# Altium footprint library FVA-NET.PcbLib: 16 footprints
Each footprint in its own frame and in the unit in brackets; x right, y up, seen from the top. Pads: shape width x height; smd on the part's side, far side on the other; paste and mask are expansions set on the pad; w line width, h text height; cw(c..) or ccw(c..) is an arc to the next point about the centre after c.
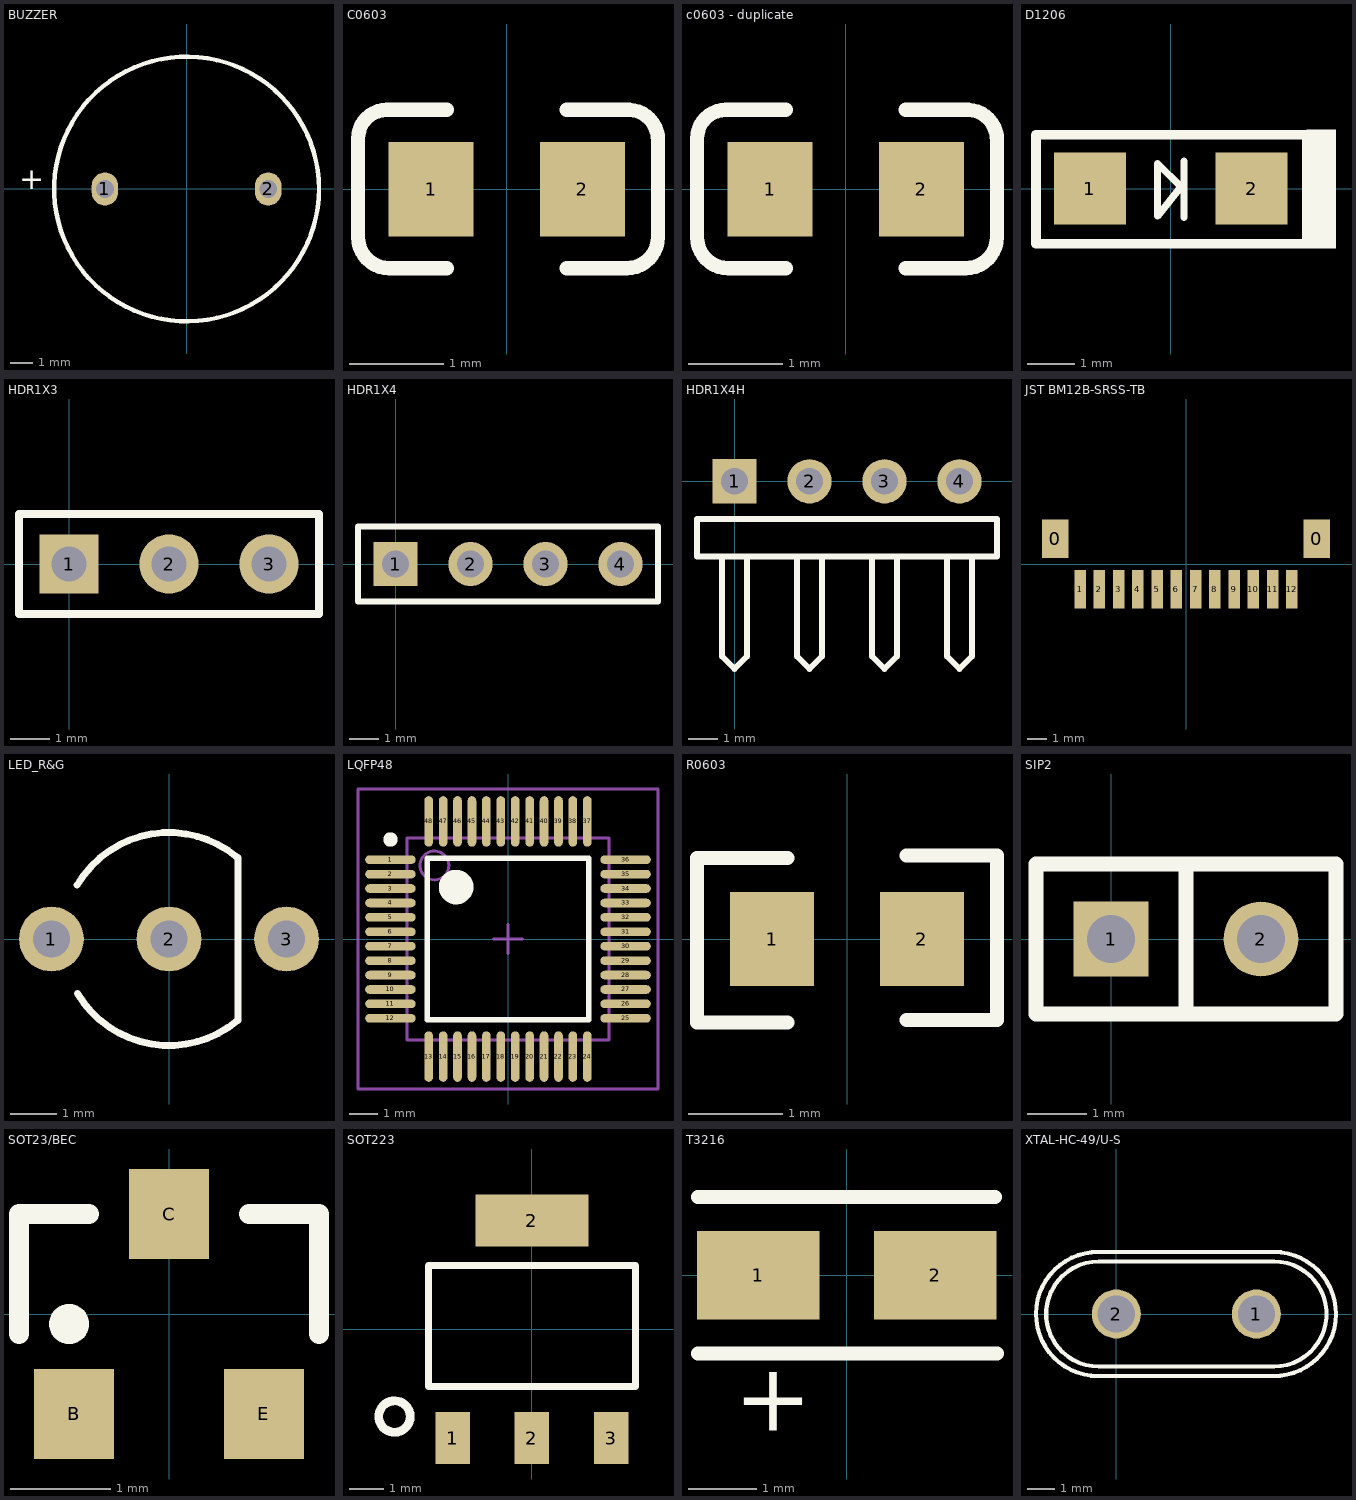
[diagram p0: the footprints below, top view; thin cyan lines are the x and y axes]

## BUZZER [mm]
height 19.3
pads (2):
  oval 1.2x1.5 hole 0.8: 1(-3.7,0) 2(3.7,0)
Top Overlay:
  circle w0.2: c0,0 r6
  text "+" at -7.595,-0.013 h1
3D body: height 9.3, standoff -3.5, extent -6.031,-6 5.969,6

## C0603 [mm] "Chip Capacitor, 2-Leads, Body 1.6x0.8mm, IPC Medium Density"
height 0.5
pads (2):
  rect 0.9x1 smd: 1(-0.8,0) 2(0.8,0)
Top Overlay:
  lines w0.15: -0.635,-0.838 -1.245,-0.838 cw(c-1.245,-0.508) -1.575,-0.508 -1.575,0.533 cw(c-1.27,0.533) -1.27,0.838 -0.635,0.838 ; 0.635,-0.838 1.27,-0.838 ccw(c1.27,-0.508) 1.6,-0.508 1.6,0.508 ccw(c1.283,0.521) 1.295,0.838 ; 0.635,0.838 1.27,0.838
3D body: height 0.89, standoff -0.01, extent -1.3,-0.508 1.3,0.492

## c0603 - duplicate [mm]
pads (2):
  rect 0.9x1 smd: 1(-0.8,0) 2(0.8,0)
Top Overlay:
  lines w0.15: -0.635,-0.838 -1.245,-0.838 cw(c-1.245,-0.508) -1.575,-0.508 -1.575,0.533 cw(c-1.27,0.533) -1.27,0.838 -0.635,0.838 ; 0.635,-0.838 1.27,-0.838 ccw(c1.27,-0.508) 1.6,-0.508 1.6,0.508 ccw(c1.283,0.521) 1.295,0.838 ; 0.635,0.838 1.27,0.838
3D body: height 0.89, standoff -0.01, extent -1.3,-0.508 1.3,0.492

## D1206 [mil]
pads (2):
  rect 60x60 smd: 1(-67.5,0) 2(67.5,0)
Top Overlay:
  rectangle: 113.51,-49.88 138,49.12
  lines w6: 11,-24 11,23 ; -11,-23 8.57,1.46 -11,21.02 -11,-23
  lines w8: 57.02,45.03 113.52,45.03 113.52,-45.97 57,-45.97 -112.48,-45.97 -112.48,45.03 65,45.03
3D body: height 56.1, standoff -0.98, extent -68.8,-28.54 69,28.54

## HDR1X3 [mm] "Connector; Header; 3 Position"
pads (3):
  rect 1.5x1.5 hole 0.9: 1(0,0)
  round 1.5 hole 0.9: 2(2.54,0) 3(5.08,0)
Top Overlay:
  lines w0.2: -1.27,-1.27 6.35,-1.27 6.35,1.27 -1.27,1.27 -1.27,-1.27

## HDR1X4 [mm] "Connector; Header; 4 Position"
pads (4):
  rect 1.5x1.5 hole 0.9: 1(0,0)
  round 1.5 hole 0.9: 2(2.54,0) 3(5.08,0) 4(7.62,0)
Top Overlay:
  lines w0.2: -1.27,-1.27 8.89,-1.27 8.89,1.27 -1.27,1.27 -1.27,-1.27

## HDR1X4H [mm] "Connector; Header; 4 Position; Right Angle"
pads (4):
  rect 1.5x1.5 hole 0.9: 1(0,0)
  round 1.5 hole 0.9: 2(2.54,0) 3(5.08,0) 4(7.62,0)
Top Overlay:
  lines w0.2: -0.423,-2.54 -0.423,-5.927 0,-6.35 0.423,-5.927 0.423,-2.54 ; 2.117,-2.54 2.117,-5.927 2.54,-6.35 2.963,-5.927 2.963,-2.54 ; 4.657,-2.54 4.657,-5.927 5.08,-6.35 5.503,-5.927 5.503,-2.54 ; 7.197,-2.54 7.197,-5.927 7.62,-6.35 8.043,-5.927 8.043,-2.54 ; -1.27,-2.54 8.89,-2.54 8.89,-1.27 -1.27,-1.27 -1.27,-2.54

## JST BM12B-SRSS-TB [mm] "BM12B-SRSS-TB"
height 6.3
pads (14):
  rect 1.4x2 smd: 0(-6.8,1.308) 0(6.8,1.308)
  rect 0.6x2 smd: 1(-5.5,-1.308) 2(-4.5,-1.308) 3(-3.5,-1.308) 4(-2.5,-1.308) 5(-1.5,-1.308) 6(-0.5,-1.308) 7(0.5,-1.308) 8(1.5,-1.308) 9(2.5,-1.308) 10(3.5,-1.308) 11(4.5,-1.308) 12(5.5,-1.308)
3D body: height 4.25, standoff -0.07, extent -7,-1.568 7,2.032

## LED_R&G [mm]
pads (3):
  round 1.4 hole 0.8: 1(-2.54,0) 2(0,0) 3(2.54,0)
Top Overlay:
  lines w0.15: -1.982,1.166 cw(c0,0) 1.486,1.756 1.486,-1.756 cw(c0,0) -1.976,-1.176
3D body: height 12.43, standoff -1, extent -2.341,-2 2.159,2

## LQFP48 [mm] "TSQFP, 48-Leads, Body 9.2x9.2mm (max), Pitch 0.50mm, IPC Medium Density"
height 1.6
pads (48):
  oval 1.75x0.3 smd: 1(-4.075,2.75) 2(-4.075,2.25) 3(-4.075,1.75) 4(-4.075,1.25) 5(-4.075,0.75) 6(-4.075,0.25) 7(-4.075,-0.25) 8(-4.075,-0.75) 9(-4.075,-1.25) 10(-4.075,-1.75) 11(-4.075,-2.25) 12(-4.075,-2.75) 25(4.075,-2.75) 26(4.075,-2.25) 27(4.075,-1.75) 28(4.075,-1.25) 29(4.075,-0.75) 30(4.075,-0.25) 31(4.075,0.25) 32(4.075,0.75) 33(4.075,1.25) 34(4.075,1.75) 35(4.075,2.25) 36(4.075,2.75)
  oval 0.3x1.75 smd: 13(-2.75,-4.075) 14(-2.25,-4.075) 15(-1.75,-4.075) 16(-1.25,-4.075) 17(-0.75,-4.075) 18(-0.25,-4.075) 19(0.25,-4.075) 20(0.75,-4.075) 21(1.25,-4.075) 22(1.75,-4.075) 23(2.25,-4.075) 24(2.75,-4.075) 37(2.75,4.075) 38(2.25,4.075) 39(1.75,4.075) 40(1.25,4.075) 41(0.75,4.075) 42(0.25,4.075) 43(-0.25,4.075) 44(-0.75,4.075) 45(-1.25,4.075) 46(-1.75,4.075) 47(-2.25,4.075) 48(-2.75,4.075)
Top Overlay:
  circle w0.25: c-4.075,3.45 r0.125
  circle w0.6: c-1.8,1.8 r0.3
  lines w0.2: -2.8,-2.8 -2.8,2.8 2.8,2.8 2.8,-2.8 -2.8,-2.8
Mechanical 13:
  circle w0.1: c-2.55,2.55 r0.5
  lines w0.1: -3.5,-3.5 -3.5,3.5 3.5,3.5 3.5,-3.5 -3.5,-3.5
Mechanical 15:
  lines w0.1: -0.5,0 0.5,0 ; 0,-0.5 0,0.5 ; -5.2,-5.2 -5.2,5.2 5.2,5.2 5.2,-5.2 -5.2,-5.2
3D body: height 1.6, standoff 0.05, extent -3.5,-3.5 3.5,3.5

## R0603 [mm]
pads (2):
  rect 0.9x1 smd: 1(-0.8,0) 2(0.8,0)
Top Overlay:
  lines w0.15: -1.6,-0.889 -0.635,-0.889 ; -1.6,0.864 -0.635,0.864 ; 0.635,-0.864 1.6,-0.864 ; 0.635,0.889 1.6,0.889
  lines w0.152: -1.6,-0.889 -1.6,0.864 ; 1.6,-0.864 1.6,0.889
3D body: height 0.45, standoff 0, extent -0.8,-0.381 0.8,0.419

## SIP2 [mil]
pads (2):
  rect 50x50 hole 32: 1(0,0)
  round 50 hole 32: 2(100,0)
Top Overlay:
  lines w10: 50,-50 50,50 ; -50,-50 150,-50 150,50 -50,50 -50,-50

## SOT23/BEC [mm]
pads (3):
  rect 0.8x0.9 smd: B(-0.95,-1) C(0,1) E(0.95,-1)
Top Overlay:
  circle w0.2: c-1,-0.1 r0.1
  lines w0.2: -1.5,-0.2 -1.5,1 -0.8,1 ; 0.8,1 1.5,1 1.5,-0.2

## SOT223 [mm]
pads (4):
  rect 1x1.5 smd: 1(-2.3,-3.15) 2(0,-3.15) 3(2.3,-3.15)
  rect 3.28x1.5 smd: 2(0,3.15)
Top Overlay:
  circle w0.254: c-3.981,-2.525 r0.456
  lines w0.2: -3,-1.65 3,-1.65 3,1.85 -3,1.85 -3,-1.65

## T3216 [mm] "Molded Capacitor, 2-Leads, Body 3.2x1.6mm, IPC Medium Density"
height 1.8
pads (2):
  rect 1.8x1.3 smd: 1(-1.3,0) 2(1.3,0)
Top Overlay:
  lines w0.203: -2.184,-1.15 2.21,-1.15 ; -2.184,1.15 2.184,1.15
  text "+" at -1.651,-2.286 h1

## XTAL-HC-49/U-S [mil]
pads (2):
  round 70 hole 53: 1(200,0) 2(0,0)
Top Overlay:
  lines w6: -26,-88.58 cw(c-26,0) -25.09,88.58 225,88.58 cw(c225,0) 224.07,-88.58 -26,-88.58 ; -25,-75 cw(c-25,0) -25,75 225,75 cw(c225,0) 225,-75 -25,-75